# Altium schematic symbol library Balun.SchLib: 1 symbol
Pins are listed as number, name and electrical type; pins without a type are passive.

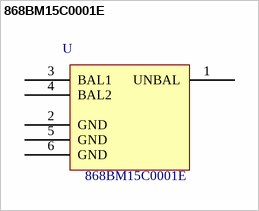
[diagram p0: symbol 868BM15C0001E]

## 868BM15C0001E
designator U  Manufacturer Code: 868BM15C0001E  (hidden comment: *)
Manufacturer: Johanson Technology Inc.; Frequency: 863~873MHz; Impedance: 50 Ohm; Input Power: 1000mW; Insertion Loss: 2.1dB max.; Return Loss: 9.5dB min.; Unit Price: 0,62 €; Farnell Code: 2148532
footprint 868BM15C0001E (Footprint not found)
pins: 1 UNBAL, 2 GND, 3 BAL1, 4 BAL2, 5 GND, 6 GND